# Altium footprint library Loggerhead.PcbLib: 175 footprints (part 9 of 11)
Each footprint in its own frame and in the unit in brackets; x right, y up, seen from the top. Pads: shape width x height; smd on the part's side, far side on the other; paste and mask are expansions set on the pad; w line width, h text height; cw(c..) or ccw(c..) is an arc to the next point about the centre after c.
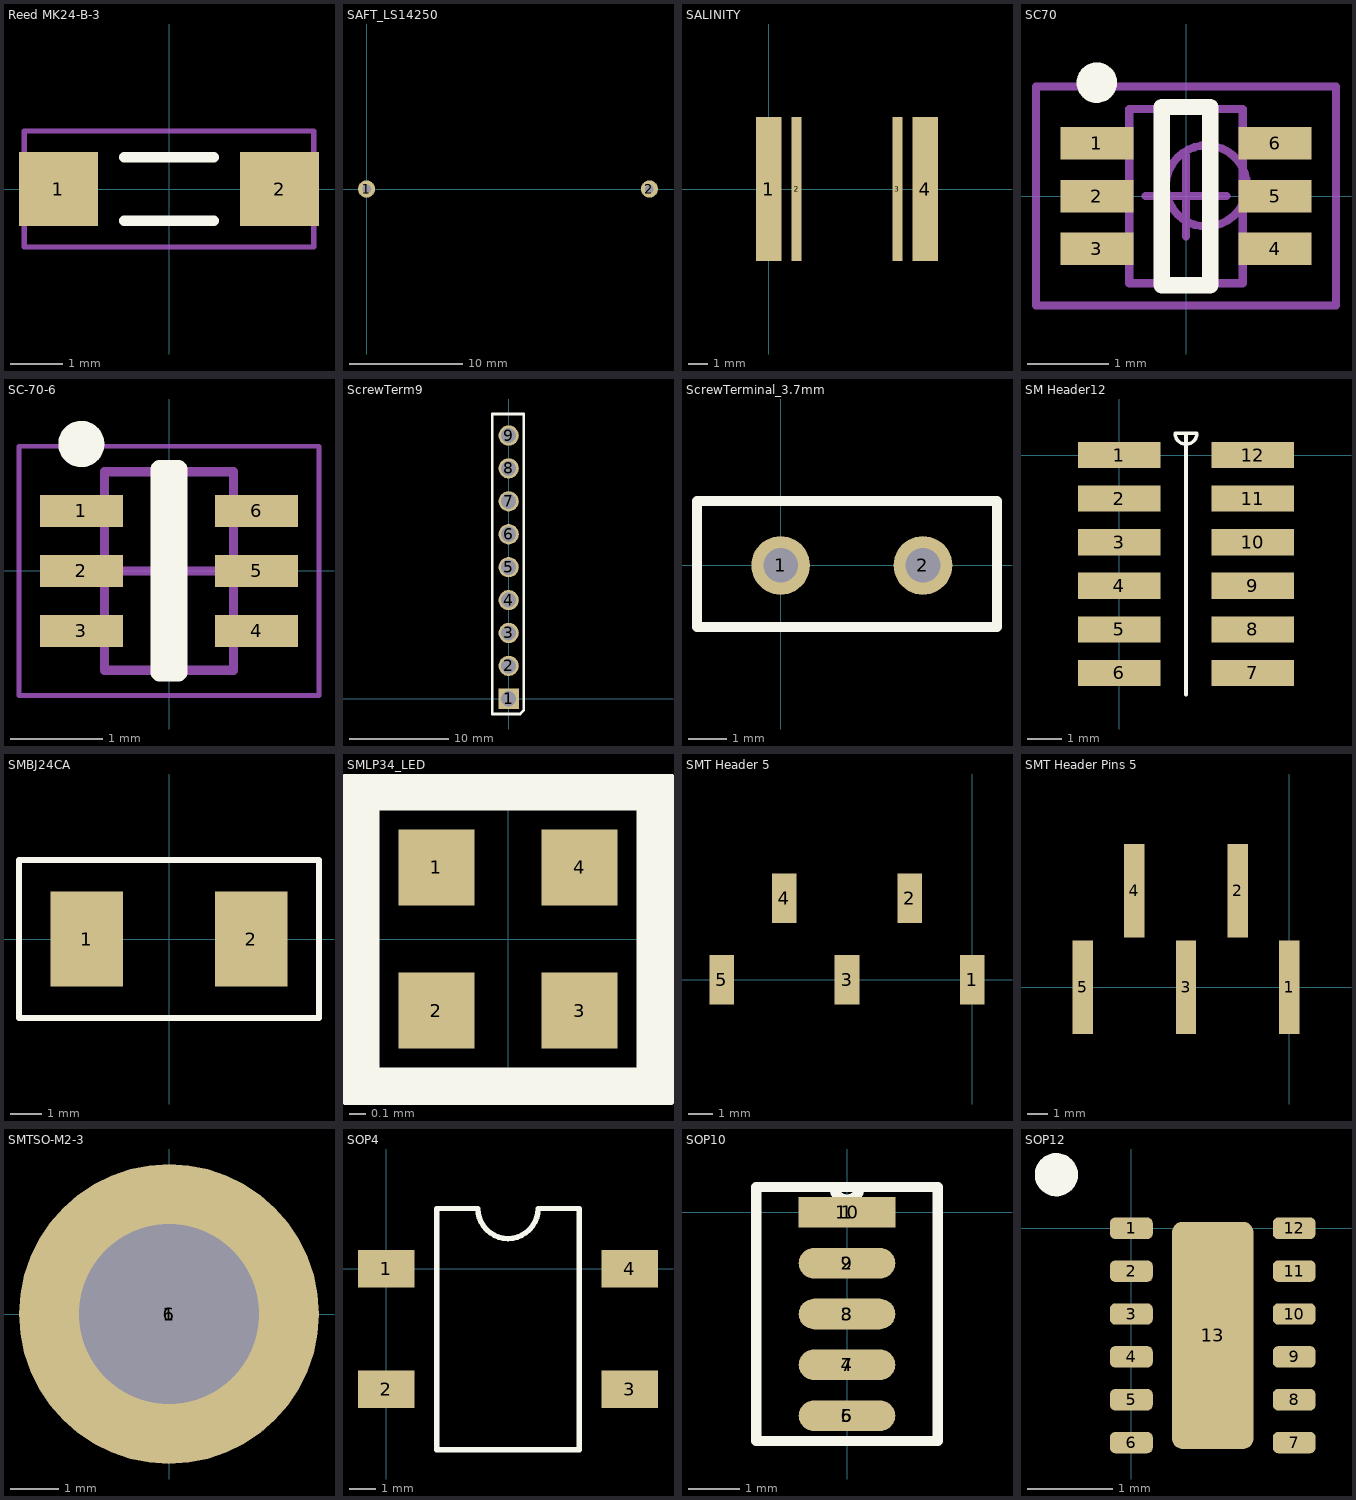
[diagram p8: the footprints below, top view; thin cyan lines are the x and y axes]

## Reed MK24-B-3 [mm] "Meder Reed Switch Surface Mount"
height 1.8
pads (2):
  rect 1.5x1.4 smd: 1(-2.1,0) 2(2.1,0)
Top Overlay:
  lines w0.2: -0.85,-0.6 0.85,-0.6 ; -0.85,0.6 0.85,0.6
Mechanical 13:
  lines w0.1: -2.75,-1.1 -2.75,1.1 2.75,1.1 2.75,-1.1 -2.75,-1.1
3D body: height 1.8, standoff 0, extent -2.75,-1.1 2.75,1.1

## SAFT_LS14250 [mil] "LiBattery"
height 551.18
pads (2):
  round 60 hole 30: 1(0,0) 2(988.19,0)
3D body: height 580.15, standoff 10.41, extent 1.97,-299.21 990.16,269.4

## SALINITY [mil]
pads (4):
  rect 50x285 smd paste+0 mask+0: 1(0,0) 4(310,0)
  rect 20x285 smd paste+0 mask+0: 2(55,0) 3(255,0)

## SC70 [mm] "TSOP, 6-Leads, Body 2.2x1.4mm (max), Pitch 0.65mm, IPC Medium Density"
height 1.1
pads (6):
  rect 0.9x0.4 smd: 1(-1.1,0.65) 2(-1.1,0) 3(-1.1,-0.65) 4(1.1,-0.65) 5(1.1,0) 6(1.1,0.65)
Top Overlay:
  circle w0.25: c-1.1,1.4 r0.125
  lines w0.2: -0.3,-1.1 0.3,-1.1 0.3,1.1 -0.3,1.1 -0.3,-1.1
Mechanical 13:
  circle w0.1: c0.25,0.125 r0.5
  lines w0.1: -0.7,-1.075 0.7,-1.075 0.7,1.075 -0.7,1.075 -0.7,-1.075
Mechanical 15:
  lines w0.1: -0.5,0 0.5,0 ; 0,-0.5 0,0.5 ; -1.85,-1.35 1.85,-1.35 1.85,1.35 -1.85,1.35 -1.85,-1.35
3D body: height 1.1, standoff 0.1, extent -0.7,-1.075 0.7,1.075

## SC-70-6 [mm] "SOT23, 6-Leads, Body 2.00x2.10mm, Pitch 0.65mm, IPC Medium Density"
height 1.1
pads (6):
  rect 0.9x0.35 smd: 1(-0.95,0.65) 2(-0.95,0) 3(-0.95,-0.65) 4(0.95,-0.65) 5(0.95,0) 6(0.95,0.65)
Top Overlay:
  circle w0.25: c-0.95,1.375 r0.125
  lines w0.2: -0.1,-1.1 0.1,-1.1 0.1,1.1 -0.1,1.1 -0.1,-1.1
Mechanical 13:
  lines w0.1: -0.7,-1.075 -0.7,1.075 0.7,1.075 0.7,-1.075 -0.7,-1.075
Mechanical 15:
  lines w0.05: -1.625,-1.35 -1.625,1.35 1.625,1.35 1.625,-1.35 -1.625,-1.35
  lines w0.1: -0.5,0 0.5,0 ; 0,-0.5 0,0.5
3D body: height 1.1, standoff 0.1, extent -0.7,-1.075 0.7,1.075

## ScrewTerm9 [mil]
pads (9):
  rect 80x80 hole 60: 1(0,0.04)
  round 80 hole 60: 2(0,130) 3(0,260) 4(0,390) 5(0,520) 6(0,650) 7(0,780) 8(0,910) 9(0,1040)
Top Overlay:
  lines w10: -65,-60 45,-60 60,-45 60,1125 -65,1125 -65,-60

## ScrewTerminal_3.7mm [mil]
pads (2):
  round 60 hole 35.43: 1(0,0) 2(145.67,0)
Top Overlay:
  lines w10: -85.63,-62.99 221.46,-62.99 221.46,65.94 -85.63,65.94 -85.63,-62.99

## SM Header12 [mm]
pads (12):
  rect 2.4x0.76 smd: 1(0,0) 2(0,-1.27) 3(0,-2.54) 4(0,-3.81) 5(0,-5.08) 6(0,-6.35) 7(3.9,-6.35) 8(3.9,-5.08) 9(3.9,-3.81) 10(3.9,-2.54) 11(3.9,-1.27) 12(3.9,0)
Top Overlay:
  lines w0.1: 1.632,0.635 ccw(c1.95,0.635) 2.267,0.635 1.965,0.635 1.965,-6.985 1.935,-6.985 1.935,0.635 1.632,0.635

## SMBJ24CA [mm]
pads (2):
  rect 2.3x3 smd: 1(-2.6,0) 2(2.6,0)
Top Overlay:
  lines w0.2: -4.75,-2.5 4.75,-2.5 4.75,2.5 -4.75,2.5 -4.75,0 -4.75,-2.5

## SMLP34_LED [mm] "RGB LED"
height 0.2
pads (4):
  rect 0.45x0.45 smd: 1(-0.425,0.425) 2(-0.425,-0.425) 3(0.425,-0.425) 4(0.425,0.425)
Top Overlay:
  lines w0.254: -0.889,-0.889 0.889,-0.889 0.889,0.889 -0.889,0.889 -0.889,-0.762 -0.889,-0.889

## SMT Header 5 [mm] "Sullins NPPC051KFXC-RC"
height 7.1
pads (5):
  rect 1x2 smd: 1(0,0) 2(-2.54,3.3) 3(-5.08,0) 4(-7.62,3.3) 5(-10.16,0)

## SMT Header Pins 5 [mm]
pads (5):
  rect 1x4.6 smd: 1(0,0) 2(-2.54,4.75) 3(-5.08,0) 4(-7.62,4.75) 5(-10.16,0)

## SMTSO-M2-3 [mm] "Surface mount threaded standoff"
height 3
pads (2):
  round 3.9 / inner round 3.9 / far side round 7 hole 3.73: 1(0,0)
  round 6.2 smd paste-6: 6(0,0)
Top Paste:
  circle w0.5: c-2.475,0 r0.1
  circle w0.5: c2.475,0 r0.1
  circle w0.5: c0,2.45 r0.1
  circle w0.5: c1.75,1.75 r0.1
  circle w0.5: c0,-2.45 r0.1
  circle w0.5: c-1.75,1.75 r0.1
  circle w0.5: c-1.75,-1.75 r0.1
  circle w0.5: c1.75,-1.75 r0.1

## SOP4 [mm]
pads (4):
  rect 2.1x1.4 smd: 1(0,0) 2(0,-4.5) 3(9.1,-4.5) 4(9.1,0)
Top Overlay:
  lines w0.2: 1.885,-6.75 1.885,2.25 3.425,2.25 ccw(c4.55,2.25) 5.675,2.25 7.215,2.25 7.215,-6.75 1.885,-6.75

## SOP10 [mm]
pads (10):
  rect 1.9x0.6 smd: 1(0,0)
  oval 1.9x0.6 smd: 2(0,-1) 3(0,-2) 4(0,-3) 5(0,-4) 6(0,-4) 7(0,-3) 8(0,-2) 9(0,-1) 10(0,0)
Top Overlay:
  lines w0.2: -1.785,-4.5 1.785,-4.5 1.785,0.5 -0.25,0.5 ccw(c0,0.5) 0.25,0.5 -1.785,0.5 -1.785,-4.5

## SOP12 [mm]
pads (13):
  rrect50% 0.5x0.25 smd: 1(0,0) 2(0,-0.5) 3(0,-1) 4(0,-1.5) 5(0,-2) 6(0,-2.5) 7(1.9,-2.5) 8(1.9,-2) 9(1.9,-1.5) 10(1.9,-1) 11(1.9,-0.5) 12(1.9,0)
  rrect25% 0.95x2.65 smd paste-0.26: 13(0.95,-1.25)
Top Overlay:
  circle w0.254: c-0.875,0.625 r0.125